# EAGLE library part LM2574-5.0YN (library LM2574-5.0YN)
Microchip LM2574-5.0YN, Step Down DC-DC Converter, 500mA, 8-Pin PDIP Source: Datasheet <https://ww1.microchip.com/downloads/en/DeviceDoc/lm2574.pdf>
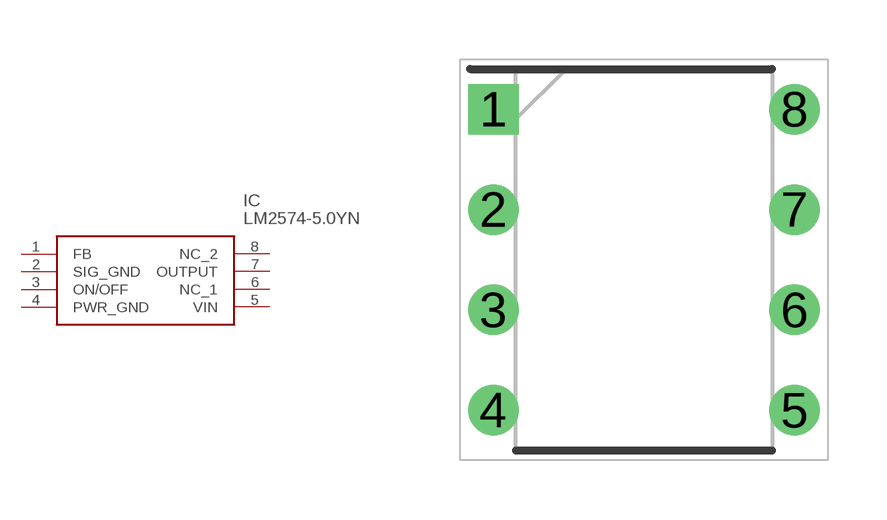
[diagram p0: symbol with the pads of DIP762W57P254L952H343Q8N; footprint DIP762W57P254L952H343Q8N]

Designator prefix IC

## LM2574-5.0YN (Description: Microchip LM2574-5.0YN, Step Down DC-DC Converter, 500mA, 8-Pin PDIP; Height: 3.43mm; Manufacturer_Name: Microchip; Manufacturer_Part_Number: LM2574-5.0YN; Mouser_Part_Number: 998-LM2574-5.0YN; Mouser_Price-Stock: https://www.mouser.co.uk/ProductDetail/Microchip-Technology-Micrel/LM2574-50YN?qs=kh6iOki%2FeLG8tRVzGWSPaw%3D%3D)  [DIP762W57P254L952H343Q8N]
1  FB
2  SIG_GND
3  ON/OFF
4  PWR_GND
5  VIN
6  NC_1
7  OUTPUT
8  NC_2

## Footprint DIP762W57P254L952H343Q8N (pad centres in mm)
8-Pin DIP (N)
drill 0.77 pad 1.17 square: 1 -3.81,3.81
drill 0.77 pad 1.17: 2 -3.81,1.27; 3 -3.81,-1.27; 4 -3.81,-3.81; 5 3.81,-3.81; 6 3.81,-1.27; 7 3.81,1.27; 8 3.81,3.81